# EAGLE library part SST39VF010-70-4I-WHE (library Parts)
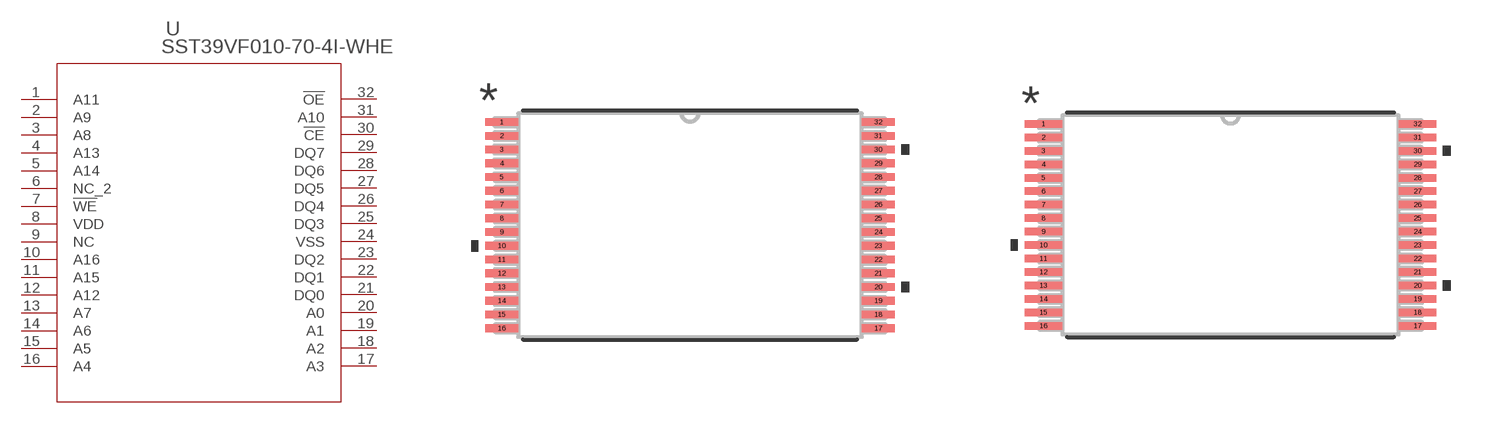
[diagram p8: symbol with the pads of TSOP32_WH_SST_MCH; footprints TSOP32_WH_SST_MCH, TSOP32_WH_SST_MCH-M]

Designator prefix U

## SST39VF010-70-4I-WHE (COPYRIGHT: Copyright (C) 2021 Ultra Librarian. All rights reserved.; DIGI-KEY_PART_NUMBER_1: SST39VF010-70-4I-WHE-ND; MANUFACTURER_PART_NUMBER: SST39VF010-70-4I-WHE; MFR_NAME: Microchip)  [TSOP32_WH_SST_MCH]
1  A11  in
2  A9  in
3  A8  in
4  A13  in
5  A14  in
6  NC_2  nc
7  !WE  in
8  VDD  pwr
9  NC  nc
10  A16  in
11  A15  in
12  A12  in
13  A7  in
14  A6  in
15  A5  in
16  A4  in
17  A3  in
18  A2  in
19  A1  in
20  A0  in
21  DQ0
22  DQ1
23  DQ2
24  VSS  pwr
25  DQ3
26  DQ4
27  DQ5
28  DQ6
29  DQ7
30  !CE  in
31  A10  in
32  !OE  in

## SST39VF010-70-4I-WHETSOP32_WH_SST_MCH-M (COPYRIGHT: Copyright (C) 2021 Ultra Librarian. All rights reserved.; DIGI-KEY_PART_NUMBER_1: SST39VF010-70-4I-WHE-ND; MANUFACTURER_PART_NUMBER: SST39VF010-70-4I-WHE; MFR_NAME: Microchip)  [TSOP32_WH_SST_MCH-M]
Pads as for TSOP32_WH_SST_MCH

## SST39VF010-70-4I-WHETSOP32_WH_SST_MCH-L (COPYRIGHT: Copyright (C) 2021 Ultra Librarian. All rights reserved.; DIGI-KEY_PART_NUMBER_1: SST39VF010-70-4I-WHE-ND; MANUFACTURER_PART_NUMBER: SST39VF010-70-4I-WHE; MFR_NAME: Microchip)  [TSOP32_WH_SST_MCH-L]
Pads as for TSOP32_WH_SST_MCH

## Footprint TSOP32_WH_SST_MCH (pad centres in mm)
smd 1.201 x 0.279: 1 -6.849,3.75; 2 -6.849,3.25; 3 -6.849,2.75; 4 -6.849,2.25; 5 -6.849,1.75; 6 -6.849,1.25; 7 -6.849,0.75; 8 -6.849,0.25; 9 -6.849,-0.25; 10 -6.849,-0.75; 11 -6.849,-1.25; 12 -6.849,-1.75; 13 -6.849,-2.25; 14 -6.849,-2.75; 15 -6.849,-3.25; 16 -6.849,-3.75; 17 6.849,-3.75; 18 6.849,-3.25; 19 6.849,-2.75; 20 6.849,-2.25; 21 6.849,-1.75; 22 6.849,-1.25; 23 6.849,-0.75; 24 6.849,-0.25; 25 6.849,0.25; 26 6.849,0.75; 27 6.849,1.25; 28 6.849,1.75; 29 6.849,2.25; 30 6.849,2.75; 31 6.849,3.25; 32 6.849,3.75

## Footprint TSOP32_WH_SST_MCH-M (pad centres in mm)
smd 1.401 x 0.279: 1 -6.949,3.75; 2 -6.949,3.25; 3 -6.949,2.75; 4 -6.949,2.25; 5 -6.949,1.75; 6 -6.949,1.25; 7 -6.949,0.75; 8 -6.949,0.25; 9 -6.949,-0.25; 10 -6.949,-0.75; 11 -6.949,-1.25; 12 -6.949,-1.75; 13 -6.949,-2.25; 14 -6.949,-2.75; 15 -6.949,-3.25; 16 -6.949,-3.75; 17 6.949,-3.75; 18 6.949,-3.25; 19 6.949,-2.75; 20 6.949,-2.25; 21 6.949,-1.75; 22 6.949,-1.25; 23 6.949,-0.75; 24 6.949,-0.25; 25 6.949,0.25; 26 6.949,0.75; 27 6.949,1.25; 28 6.949,1.75; 29 6.949,2.25; 30 6.949,2.75; 31 6.949,3.25; 32 6.949,3.75

## Footprint TSOP32_WH_SST_MCH-L (pad centres in mm)
smd 1.001 x 0.229: 1 -6.749,3.75; 2 -6.749,3.25; 3 -6.749,2.75; 4 -6.749,2.25; 5 -6.749,1.75; 6 -6.749,1.25; 7 -6.749,0.75; 8 -6.749,0.25; 9 -6.749,-0.25; 10 -6.749,-0.75; 11 -6.749,-1.25; 12 -6.749,-1.75; 13 -6.749,-2.25; 14 -6.749,-2.75; 15 -6.749,-3.25; 16 -6.749,-3.75; 17 6.749,-3.75; 18 6.749,-3.25; 19 6.749,-2.75; 20 6.749,-2.25; 21 6.749,-1.75; 22 6.749,-1.25; 23 6.749,-0.75; 24 6.749,-0.25; 25 6.749,0.25; 26 6.749,0.75; 27 6.749,1.25; 28 6.749,1.75; 29 6.749,2.25; 30 6.749,2.75; 31 6.749,3.25; 32 6.749,3.75